# Altium footprint library 2.54-PLCC插槽封装.PcbLib: 85 footprints (part 5 of 6)
Each footprint in its own frame and in the unit in brackets; x right, y up, seen from the top. Pads: shape width x height; smd on the part's side, far side on the other; paste and mask are expansions set on the pad; w line width, h text height; cw(c..) or ccw(c..) is an arc to the next point about the centre after c.
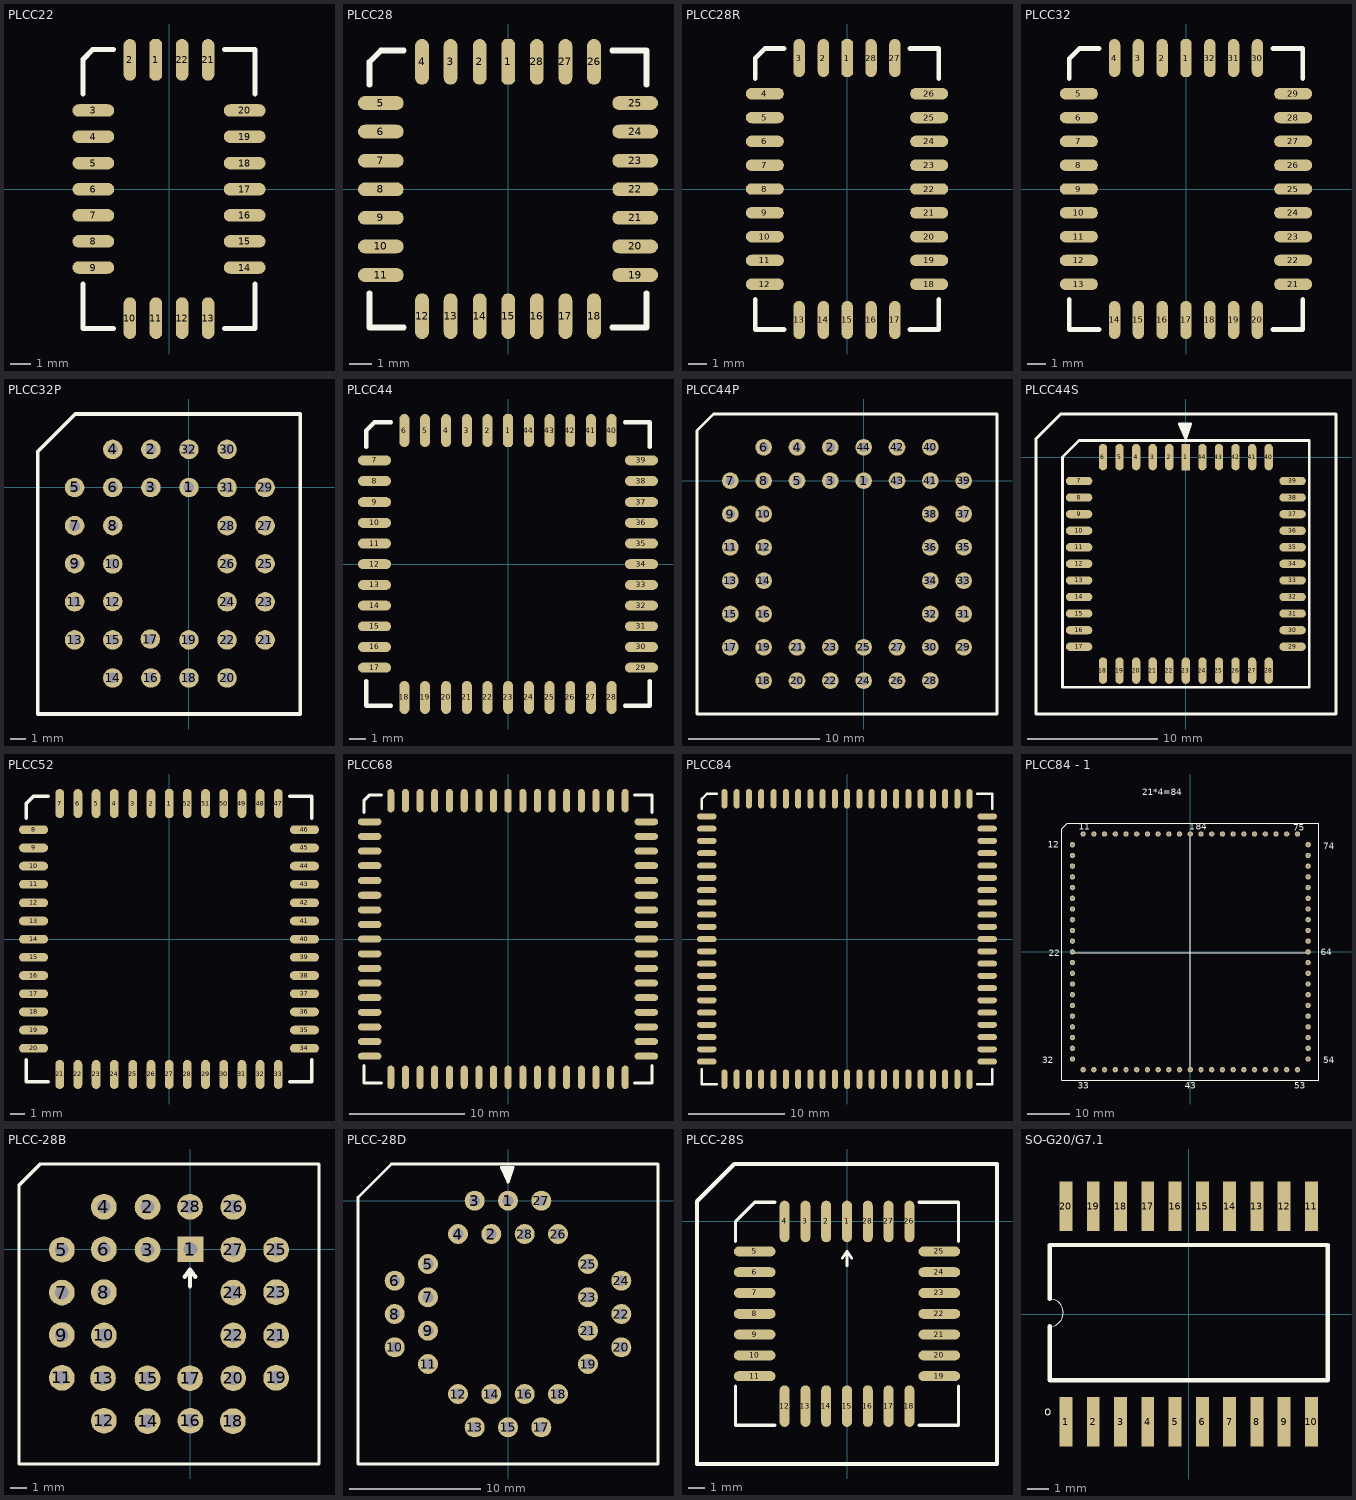
[diagram p4: the footprints below, top view; thin cyan lines are the x and y axes]

## PLCC22 [mil]
pads (22):
  oct 24x80 smd: 1(-25,247.5)
  oval 24x80 smd: 2(-75,247.5) 10(-75,-247.5) 11(-25,-247.5) 12(25,-247.5) 13(75,-247.5) 21(75,247.5) 22(25,247.5)
  oval 80x24 smd: 3(-145,150.5) 4(-145,100.5) 5(-145,49.5) 6(-145,-0.5) 7(-145,-50.5) 8(-145,-100.5) 9(-145,-150.5) 14(145,-150.5) 15(145,-100.5) 16(145,-50.5) 17(145,-0.5) 18(145,49.5) 19(145,100.5) 20(145,150.5)
Top Overlay:
  lines w10: -165,-182.5 -165,-267.5 -107,-267.5 ; -165,182.5 -165,248.5 -146,267.5 -107,267.5 ; 107,-267.5 165,-267.5 165,-182.5 ; 107,267.5 165,267.5 165,182.5

## PLCC28 [mil]
pads (28):
  oct 24x80 smd: 1(0.5,222.5)
  oval 24x80 smd: 2(-49.5,222.5) 3(-100.5,222.5) 4(-150.5,222.5) 12(-150.5,-222.5) 13(-100.5,-222.5) 14(-49.5,-222.5) 15(0.5,-222.5) 16(50.5,-222.5) 17(100.5,-222.5) 18(150.5,-222.5) 26(150.5,222.5) 27(100.5,222.5) 28(50.5,222.5)
  oval 80x24 smd: 5(-222.5,150.5) 6(-222.5,100.5) 7(-222.5,49.5) 8(-222.5,-0.5) 9(-222.5,-50.5) 10(-222.5,-100.5) 11(-222.5,-150.5) 19(222.5,-150.5) 20(222.5,-100.5) 21(222.5,-50.5) 22(222.5,-0.5) 23(222.5,49.5) 24(222.5,100.5) 25(222.5,150.5)
Top Overlay:
  lines w10: -242.5,-182.5 -242.5,-242.5 -182.5,-242.5 ; -242.5,182.5 -242.5,222.5 -222.5,242.5 -182.5,242.5 ; 182.5,-242.5 242.5,-242.5 242.5,-182.5 ; 182.5,242.5 242.5,242.5 242.5,182.5

## PLCC28R [mil]
pads (28):
  oct 24x80 smd: 1(0.5,275)
  oval 24x80 smd: 2(-49.5,275) 3(-100.5,275) 13(-100.5,-275) 14(-49.5,-275) 15(0.5,-275) 16(50.5,-275) 17(100.5,-275) 27(100.5,275) 28(50.5,275)
  oval 80x24 smd: 4(-172.5,200) 5(-172.5,150) 6(-172.5,100) 7(-172.5,50) 8(-172.5,0) 9(-172.5,-50) 10(-172.5,-100) 11(-172.5,-150) 12(-172.5,-200) 18(172.5,-200) 19(172.5,-150) 20(172.5,-100) 21(172.5,-50) 22(172.5,0) 23(172.5,50) 24(172.5,100) 25(172.5,150) 26(172.5,200)
Top Overlay:
  lines w10: -192.5,-232 -192.5,-295 -132.5,-295 ; -192.5,232 -192.5,275 -172.5,295 -132.5,295 ; 132.5,-295 192.5,-295 192.5,-232 ; 132.5,295 192.5,295 192.5,232

## PLCC32 [mil]
pads (32):
  oct 24x80 smd: 1(0,275)
  oval 24x80 smd: 2(-50,275) 3(-100,275) 4(-150,275) 14(-150,-275) 15(-100,-275) 16(-50,-275) 17(0,-275) 18(50,-275) 19(100,-275) 20(150,-275) 30(150,275) 31(100,275) 32(50,275)
  oval 80x24 smd: 5(-225,200) 6(-225,150) 7(-225,100) 8(-225,50) 9(-225,0) 10(-225,-50) 11(-225,-100) 12(-225,-150) 13(-225,-200) 21(225,-200) 22(225,-150) 23(225,-100) 24(225,-50) 25(225,0) 26(225,50) 27(225,100) 28(225,150) 29(225,200)
Top Overlay:
  lines w10: -245,-232 -245,-295 -182,-295 ; -245,232 -245,274 -224,295 -182,295 ; 182,-295 245,-295 245,-232 ; 182,295 245,295 245,232

## PLCC32P [mm] "淘宝ID:黄晶宝石"
pads (32):
  round 1.3 hole 0.7: 1(0,0) 2(-2.54,2.54) 3(-2.54,0) 4(-5.08,2.54) 5(-7.62,0) 6(-5.08,0) 7(-7.62,-2.54) 8(-5.08,-2.54) 9(-7.62,-5.08) 10(-5.08,-5.1) 11(-7.62,-7.62) 12(-5.08,-7.6) 13(-7.62,-10.16) 14(-5.08,-12.7) 15(-5.08,-10.16) 16(-2.54,-12.7) 17(-2.58,-10.1) 18(0,-12.7) 19(0,-10.16) 20(2.54,-12.7) 21(5.08,-10.16) 22(2.54,-10.16) 23(5.08,-7.62) 24(2.54,-7.62) 25(5.08,-5.08) 26(2.54,-5.08) 27(5.08,-2.54) 28(2.54,-2.54) 29(5.08,0) 30(2.54,2.54) 31(2.54,0) 32(0,2.54)
Top Overlay:
  lines w0.254: -10.08,-15.1 -10.08,-0.1 -10.08,2.4 -7.58,4.9 -5.08,4.9 7.42,4.9 7.42,-15.1 -10.08,-15.1

## PLCC44 [mil]
pads (44):
  oct 24x80 smd: 1(0.5,322.5)
  oval 24x80 smd: 2(-49.5,322.5) 3(-99.5,322.5) 4(-149.5,322.5) 5(-200.5,322.5) 6(-250.5,322.5) 18(-250.5,-322.5) 19(-200.5,-322.5) 20(-149.5,-322.5) 21(-99.5,-322.5) 22(-49.5,-322.5) 23(0.5,-322.5) 24(50.5,-322.5) 25(100.5,-322.5) 26(150.5,-322.5) 27(200.5,-322.5) 28(250.5,-322.5) 40(250.5,322.5) 41(200.5,322.5) 42(150.5,322.5) 43(100.5,322.5) 44(50.5,322.5)
  oval 80x24 smd: 7(-322.5,250.5) 8(-322.5,200.5) 9(-322.5,149.5) 10(-322.5,99.5) 11(-322.5,49.5) 12(-322.5,-0.5) 13(-322.5,-50.5) 14(-322.5,-100.5) 15(-322.5,-150.5) 16(-322.5,-200.5) 17(-322.5,-250.5) 29(322.5,-250.5) 30(322.5,-200.5) 31(322.5,-150.5) 32(322.5,-100.5) 33(322.5,-50.5) 34(322.5,-0.5) 35(322.5,49.5) 36(322.5,99.5) 37(322.5,149.5) 38(322.5,200.5) 39(322.5,250.5)
Top Overlay:
  lines w10: -342.5,-282.5 -342.5,-342.5 -282.5,-342.5 ; -342.5,282.5 -342.5,322.5 -322.5,342.5 -282.5,342.5 ; 282.5,-342.5 342.5,-342.5 342.5,-282.5 ; 282.5,342.5 342.5,342.5 342.5,282.5

## PLCC44P [mil]
pads (44):
  round 50 hole 28: 1(0,0) 2(-100,100) 3(-100,0) 4(-200,100) 5(-200,0) 6(-300,100) 7(-400,0) 8(-300,0) 9(-400,-100) 10(-300,-100) 11(-400,-200) 12(-300,-200) 13(-400,-300) 14(-300,-300) 15(-400,-400) 16(-300,-400) 17(-400,-500) 18(-300,-600) 19(-300,-500) 20(-200,-600) 21(-200,-500) 22(-100,-600) 23(-100,-500) 24(0,-600) 25(0,-500) 26(100,-600) 27(100,-500) 28(200,-600) 29(300,-500) 30(200,-500) 31(300,-400) 32(200,-400) 33(300,-300) 34(200,-300) 35(300,-200) 36(200,-200) 37(300,-100) 38(200,-100) 39(300,0) 40(200,100) 41(200,0) 42(100,100) 43(100,0) 44(0,100)
Top Overlay:
  lines w8: -500,-700 400,-700 400,200 -450,200 -500,150 -500,-700

## PLCC44S [mil]
pads (44):
  rect 25x80 smd: 1(0,0)
  oval 25x80 smd: 2(-50,0) 3(-100,0) 4(-150,0) 5(-200,0) 6(-250,0) 18(-250,-644) 19(-200,-644) 20(-150,-644) 21(-100,-644) 22(-50,-644) 23(0,-644) 24(50,-644) 25(100,-644) 26(150,-644) 27(200,-644) 28(250,-644) 40(250,0) 41(200,0) 42(150,0) 43(100,0) 44(50,0)
  oval 80x25 smd: 7(-322,-72) 8(-322,-122) 9(-322,-172) 10(-322,-222) 11(-322,-272) 12(-322,-322) 13(-322,-372) 14(-322,-422) 15(-322,-472) 16(-322,-522) 17(-322,-572) 29(322,-572) 30(322,-522) 31(322,-472) 32(322,-422) 33(322,-372) 34(322,-322) 35(322,-272) 36(322,-222) 37(322,-172) 38(322,-122) 39(322,-72)
Top Overlay:
  lines w8: -15,100 0,70 ; -10,100 0,80 5,100 ; 0,100 0,70 ; 10,100 0,70 ; -372,-694 -372,0 -322,50 372,50 372,-694 -372,-694 ; -20,100 15,100 0,55 -20,100
  lines w10: -452,-775 453,-775 453,130 -377,130 -452,55 -452,-775

## PLCC52 [mil]
pads (52):
  oct 24x80 smd: 1(0.5,372.5)
  oval 24x80 smd: 2(-49.5,372.5) 3(-99.5,372.5) 4(-150.5,372.5) 5(-200.5,372.5) 6(-250.5,372.5) 7(-300.5,372.5) 21(-300.5,-372.5) 22(-250.5,-372.5) 23(-200.5,-372.5) 24(-150.5,-372.5) 25(-99.5,-372.5) 26(-49.5,-372.5) 27(0.5,-372.5) 28(50.5,-372.5) 29(100.5,-372.5) 30(150.5,-372.5) 31(200.5,-372.5) 32(250.5,-372.5) 33(300.5,-372.5) 47(300.5,372.5) 48(250.5,372.5) 49(200.5,372.5) 50(150.5,372.5) 51(100.5,372.5) 52(50.5,372.5)
  oval 80x24 smd: 8(-372.5,300.5) 9(-372.5,250.5) 10(-372.5,200.5) 11(-372.5,150.5) 12(-372.5,99.5) 13(-372.5,49.5) 14(-372.5,-0.5) 15(-372.5,-50.5) 16(-372.5,-100.5) 17(-372.5,-150.5) 18(-372.5,-200.5) 19(-372.5,-250.5) 20(-372.5,-300.5) 34(372.5,-300.5) 35(372.5,-250.5) 36(372.5,-200.5) 37(372.5,-150.5) 38(372.5,-100.5) 39(372.5,-50.5) 40(372.5,-0.5) 41(372.5,49.5) 42(372.5,99.5) 43(372.5,150.5) 44(372.5,200.5) 45(372.5,250.5) 46(372.5,300.5)
Top Overlay:
  lines w10: -392.5,-332.5 -392.5,-392.5 -332.5,-392.5 ; -392.5,332.5 -392.5,372.5 -372.5,392.5 -332.5,392.5 ; 332.5,-392.5 392.5,-392.5 392.5,-332.5 ; 332.5,392.5 392.5,392.5 392.5,332.5

## PLCC68 [mil]
pads (68):
  oct 24x80 smd: 1(0.5,472.5)
  oval 24x80 smd: 2(-49.5,472.5) 3(-99.5,472.5) 4(-149.5,472.5) 5(-199.5,472.5) 6(-250.5,472.5) 7(-300.5,472.5) 8(-350.5,472.5) 9(-400.5,472.5) 27(-400.5,-472.5) 28(-350.5,-472.5) 29(-300.5,-472.5) 30(-250.5,-472.5) 31(-199.5,-472.5) 32(-149.5,-472.5) 33(-99.5,-472.5) 34(-49.5,-472.5) 35(0.5,-472.5) 36(50.5,-472.5) 37(100.5,-472.5) 38(150.5,-472.5) 39(200.5,-472.5) 40(250.5,-472.5) 41(300.5,-472.5) 42(350.5,-472.5) 43(400.5,-472.5) 61(400.5,472.5) 62(350.5,472.5) 63(300.5,472.5) 64(250.5,472.5) 65(200.5,472.5) 66(150.5,472.5) 67(100.5,472.5) 68(50.5,472.5)
  oval 80x24 smd: 10(-472.5,400.5) 11(-472.5,350.5) 12(-472.5,300.5) 13(-472.5,250.5) 14(-472.5,199.5) 15(-472.5,149.5) 16(-472.5,99.5) 17(-472.5,49.5) 18(-472.5,-0.5) 19(-472.5,-50.5) 20(-472.5,-100.5) 21(-472.5,-150.5) 22(-472.5,-200.5) 23(-472.5,-250.5) 24(-472.5,-300.5) 25(-472.5,-350.5) 26(-472.5,-400.5) 44(472.5,-400.5) 45(472.5,-350.5) 46(472.5,-300.5) 47(472.5,-250.5) 48(472.5,-200.5) 49(472.5,-150.5) 50(472.5,-100.5) 51(472.5,-50.5) 52(472.5,-0.5) 53(472.5,49.5) 54(472.5,99.5) 55(472.5,149.5) 56(472.5,199.5) 57(472.5,250.5) 58(472.5,300.5) 59(472.5,350.5) 60(472.5,400.5)
Top Overlay:
  lines w10: -492.5,-432.5 -492.5,-492.5 -432.5,-492.5 ; -492.5,432.5 -492.5,472.5 -472.5,492.5 -432.5,492.5 ; 432.5,-492.5 492.5,-492.5 492.5,-432.5 ; 432.5,492.5 492.5,492.5 492.5,432.5

## PLCC84 [mil]
pads (84):
  oct 24x80 smd: 1(0.5,572.5)
  oval 24x80 smd: 2(-49.5,572.5) 3(-99.5,572.5) 4(-149.5,572.5) 5(-199.5,572.5) 6(-249.5,572.5) 7(-299.5,572.5) 8(-350.5,572.5) 9(-400.5,572.5) 10(-450.5,572.5) 11(-500.5,572.5) 33(-500.5,-572.5) 34(-450.5,-572.5) 35(-400.5,-572.5) 36(-350.5,-572.5) 37(-299.5,-572.5) 38(-249.5,-572.5) 39(-199.5,-572.5) 40(-149.5,-572.5) 41(-99.5,-572.5) 42(-49.5,-572.5) 43(0.5,-572.5) 44(50.5,-572.5) 45(100.5,-572.5) 46(150.5,-572.5) 47(200.5,-572.5) 48(250.5,-572.5) 49(300.5,-572.5) 50(350.5,-572.5) 51(400.5,-572.5) 52(450.5,-572.5) 53(500.5,-572.5) 75(500.5,572.5) 76(450.5,572.5) 77(400.5,572.5) 78(350.5,572.5) 79(300.5,572.5) 80(250.5,572.5) 81(200.5,572.5) 82(150.5,572.5) 83(100.5,572.5) 84(50.5,572.5)
  oval 80x24 smd: 12(-572.5,500.5) 13(-572.5,450.5) 14(-572.5,400.5) 15(-572.5,350.5) 16(-572.5,299.5) 17(-572.5,249.5) 18(-572.5,199.5) 19(-572.5,149.5) 20(-572.5,99.5) 21(-572.5,49.5) 22(-572.5,-0.5) 23(-572.5,-50.5) 24(-572.5,-100.5) 25(-572.5,-150.5) 26(-572.5,-200.5) 27(-572.5,-250.5) 28(-572.5,-300.5) 29(-572.5,-350.5) 30(-572.5,-400.5) 31(-572.5,-450.5) 32(-572.5,-500.5) 54(572.5,-500.5) 55(572.5,-450.5) 56(572.5,-400.5) 57(572.5,-350.5) 58(572.5,-300.5) 59(572.5,-250.5) 60(572.5,-200.5) 61(572.5,-150.5) 62(572.5,-100.5) 63(572.5,-50.5) 64(572.5,-0.5) 65(572.5,49.5) 66(572.5,99.5) 67(572.5,149.5) 68(572.5,199.5) 69(572.5,249.5) 70(572.5,299.5) 71(572.5,350.5) 72(572.5,400.5) 73(572.5,450.5) 74(572.5,500.5)
Top Overlay:
  lines w10: -592.5,-532.5 -592.5,-592.5 -532.5,-592.5 ; -592.5,532.5 -592.5,572.5 -572.5,592.5 -532.5,592.5 ; 532.5,-592.5 592.5,-592.5 592.5,-532.5 ; 532.5,592.5 592.5,592.5 592.5,532.5

## PLCC84 - 1 [mil] "PLCC84脚芯片"
pads (84):
  round 50 hole 25: 1(0,-1100) 1(0,1100) 1(1000,-1100) 1(1000,1100) 1(1100,-1000) 1(1100,0) 2(-100,-1100) 2(-100,1100) 2(900,-1100) 2(900,1100) 2(1100,-900) 2(1100,100) 3(-200,-1100) 3(-200,1100) 3(800,-1100) 3(800,1100) 3(1100,-800) 3(1100,200) 4(-300,-1100) 4(-300,1100) 4(700,-1100) 4(700,1100) 4(1100,-700) 4(1100,300) 5(-400,-1100) 5(-400,1100) 5(600,-1100) 5(600,1100) 5(1100,-600) 5(1100,400) 6(-500,-1100) 6(-500,1100) 6(500,-1100) 6(500,1100) 6(1100,-500) 6(1100,500) 7(-600,-1100) 7(-600,1100) 7(400,-1100) 7(400,1100) 7(1100,-400) 7(1100,600) 8(-700,-1100) 8(-700,1100) 8(300,-1100) 8(300,1100) 8(1100,-300) 8(1100,700) 9(-800,-1100) 9(-800,1100) 9(200,-1100) 9(200,1100) 9(1100,-200) 9(1100,800) 10(-900,-1100) 10(-900,1100) 10(100,-1100) 10(100,1100) 10(1100,-100) 10(1100,900) 11(-1000,-1100) 11(-1000,1100) 12(-1100,1000) 13(-1100,900) 14(-1100,800) 14(1100,1000) 15(-1100,700) 16(-1100,600) 17(-1100,500) 18(-1100,400) 19(-1100,300) 20(-1100,200) 21(-1100,100) 22(-1100,0) 23(-1100,-100) 24(-1100,-200) 25(-1100,-300) 26(-1100,-400) 27(-1100,-500) 28(-1100,-600) 29(-1100,-700) 30(-1100,-800) 31(-1100,-900) 32(-1100,-1000)
Top Overlay:
  lines w10: -1100,-10 1100,-10 ; 0,-1100 0,1100 ; -1200,-1200 1200,-1200 1200,1200 -1150,1200 -1200,1150 -1200,-1200
  text "21*4=84" at -450,1460 h60
  text "32" at -1380,-1040 h60
  text "12" at -1330,970 h60
  text "11" at -1040,1140 h60
  text "1" at -10,1140 h60
  text "33" at -1050,-1280 h60
  text "53" at 970,-1280 h60
  text "54" at 1240,-1040 h60
  text "74" at 1240,960 h60
  text "75" at 960,1130 h60
  text "84" at 50,1140 h60
  text "22" at -1320,-40 h60
  text "43" at -50,-1280 h60
  text "64" at 1220,-30 h60

## PLCC-28B [mil]
pads (28):
  rect 60x60 hole 32: 1(0,0)
  round 60 hole 32: 2(-100,99) 3(-100,-1) 4(-202,99) 5(-300,-1) 6(-202,0) 7(-300,-101) 8(-202,-100) 9(-300,-200) 10(-202,-201) 11(-300,-300) 12(-202,-400) 13(-204,-301) 14(-100,-401) 15(-100,-301) 16(0,-400) 17(-1,-301) 18(99,-401) 19(200,-300) 20(100,-301) 21(200,-201) 22(100,-201) 23(200,-100) 24(100,-101) 25(200,-1) 26(100,99) 27(100,-1) 28(-1,99)
Top Overlay:
  lines w7.87: -400,-501 300,-501 300,199 -350,199 -400,149 -400,-501
  lines w10: -13,-64 -1,-48 ; -1,-86 -1,-48 ; 11,-64 -1,-48

## PLCC-28D [mil]
pads (28):
  round 60 hole 32: 1(0,0) 2(-50,-100) 3(-100,0) 4(-150,-100) 5(-240,-190) 6(-340,-240) 7(-240,-290) 8(-340,-340) 9(-240,-390) 10(-340,-440) 11(-240,-490) 12(-150,-580) 13(-100,-680) 14(-50,-580) 15(0,-680) 16(50,-580) 17(100,-680) 18(150,-580) 19(240,-490) 20(340,-440) 21(240,-390) 22(340,-340) 23(240,-290) 24(340,-240) 25(240,-190) 26(150,-100) 27(100,0) 28(50,-100)
Top Overlay:
  lines w8: -15,100 0,70 ; -10,100 0,80 5,100 ; 0,100 0,70 ; 10,100 0,70 ; -450,-790 -450,10 -350,110 450,110 450,-790 -450,-790 ; -20,100 15,100 0,55 -20,100

## PLCC-28S [mm] "淘宝ID:黄晶宝石"
pads (28):
  oval 0.6x2.5 smd: 1(0,0) 2(-1.25,0) 3(-2.5,0) 4(-3.75,0) 12(-3.75,-11.1) 13(-2.5,-11.1) 14(-1.25,-11.1) 15(0,-11.1) 16(1.25,-11.1) 17(2.5,-11.1) 18(3.75,-11.1) 26(3.75,0) 27(2.5,0) 28(1.25,0)
  oval 2.5x0.6 smd: 5(-5.55,-1.8) 6(-5.55,-3.05) 7(-5.55,-4.3) 8(-5.55,-5.55) 9(-5.55,-6.8) 10(-5.55,-8.05) 11(-5.55,-9.3) 19(5.55,-9.3) 20(5.55,-8.05) 21(5.55,-6.8) 22(5.55,-5.55) 23(5.55,-4.3) 24(5.55,-3.05) 25(5.55,-1.8)
Top Overlay:
  lines w0.154: -0.279,-2.21 0,-1.778 ; 0,-2.667 0,-1.778 ; 0.279,-2.21 0,-1.778
  lines w0.2: -6.7,-9.9 -6.7,-12.25 -4.35,-12.25 ; -6.7,-1.2 -6.7,0 -5.55,1.15 -4.35,1.15 ; 4.35,-12.25 6.7,-12.25 6.7,-9.9 ; 4.35,1.15 6.7,1.15 6.7,-1.2
  lines w0.254: -9.017,-14.58 -9.017,1.219 -6.782,3.454 9.017,3.454 9.017,-14.58 -9.017,-14.58

## SO-G20/G7.1 [mil]
pads (20):
  rect 23.62x90 smd: 1(-225,-197.5) 2(-175,-197.5) 3(-125,-197.5) 4(-75,-197.5) 5(-25,-197.5) 6(25,-197.5) 7(75,-197.5) 8(125,-197.5) 9(175,-197.5) 10(225,-197.5) 11(225,197.5) 12(175,197.5) 13(125,197.5) 14(75,197.5) 15(25,197.5) 16(-25,197.5) 17(-75,197.5) 18(-125,197.5) 19(-175,197.5) 20(-225,197.5)
Top Overlay:
  circle w1: c-258.46,-179.59 r4.92
  lines w1: -254.92,-22.5 ccw(c-254.92,2.5) -254.92,27.5
  lines w7.87: -254.92,-22.5 -254.92,-121.52 254.92,-121.52 254.92,126.52 -254.92,126.52 -254.92,27.5